# Altium footprint library TO-247-3.PcbLib: 1 footprints
Each footprint in its own frame and in the unit in brackets; x right, y up, seen from the top. Pads: shape width x height; smd on the part's side, far side on the other; paste and mask are expansions set on the pad; w line width, h text height; cw(c..) or ccw(c..) is an arc to the next point about the centre after c.
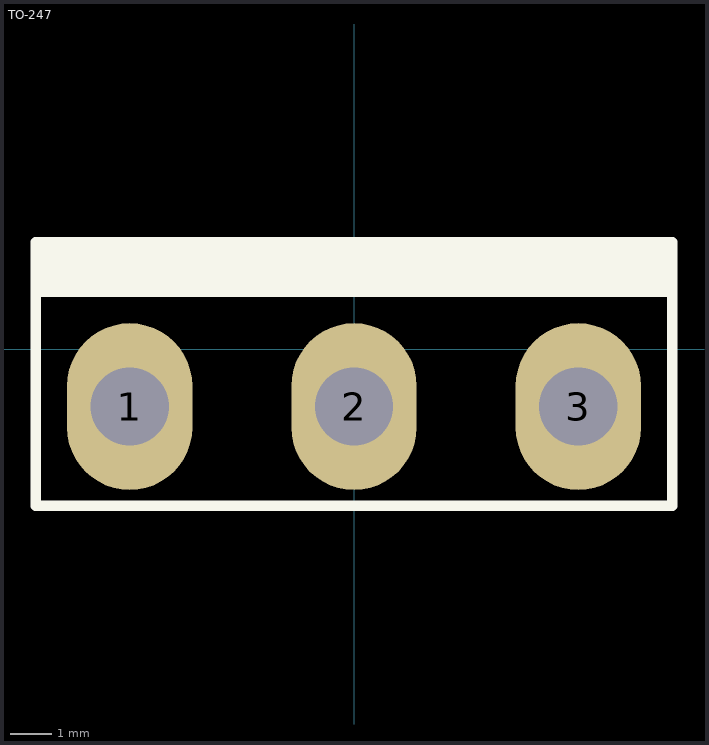
[diagram p0: the footprint, top view; thin cyan lines are the x and y axes]

## TO-247 [mil]
pads (3):
  oval 120x160 hole 75: 1(-215,-55) 2(0,-55) 3(215,-55)
Top Overlay:
  rectangle: -305,50 305,102.5
  lines w10: -305,-150 305,-150 305,102.5 -305,102.5 -305,-150
3D body "TO-247.STEP": height 1196.65, standoff -193.11, extent -305.12,-146.85 305.12,50